# Altium footprint library Conv_buck_R0.PcbLib: 47 footprints (part 1 of 3)
Each footprint in its own frame and in the unit in brackets; x right, y up, seen from the top. Pads: shape width x height; smd on the part's side, far side on the other; paste and mask are expansions set on the pad; w line width, h text height; cw(c..) or ccw(c..) is an arc to the next point about the centre after c.
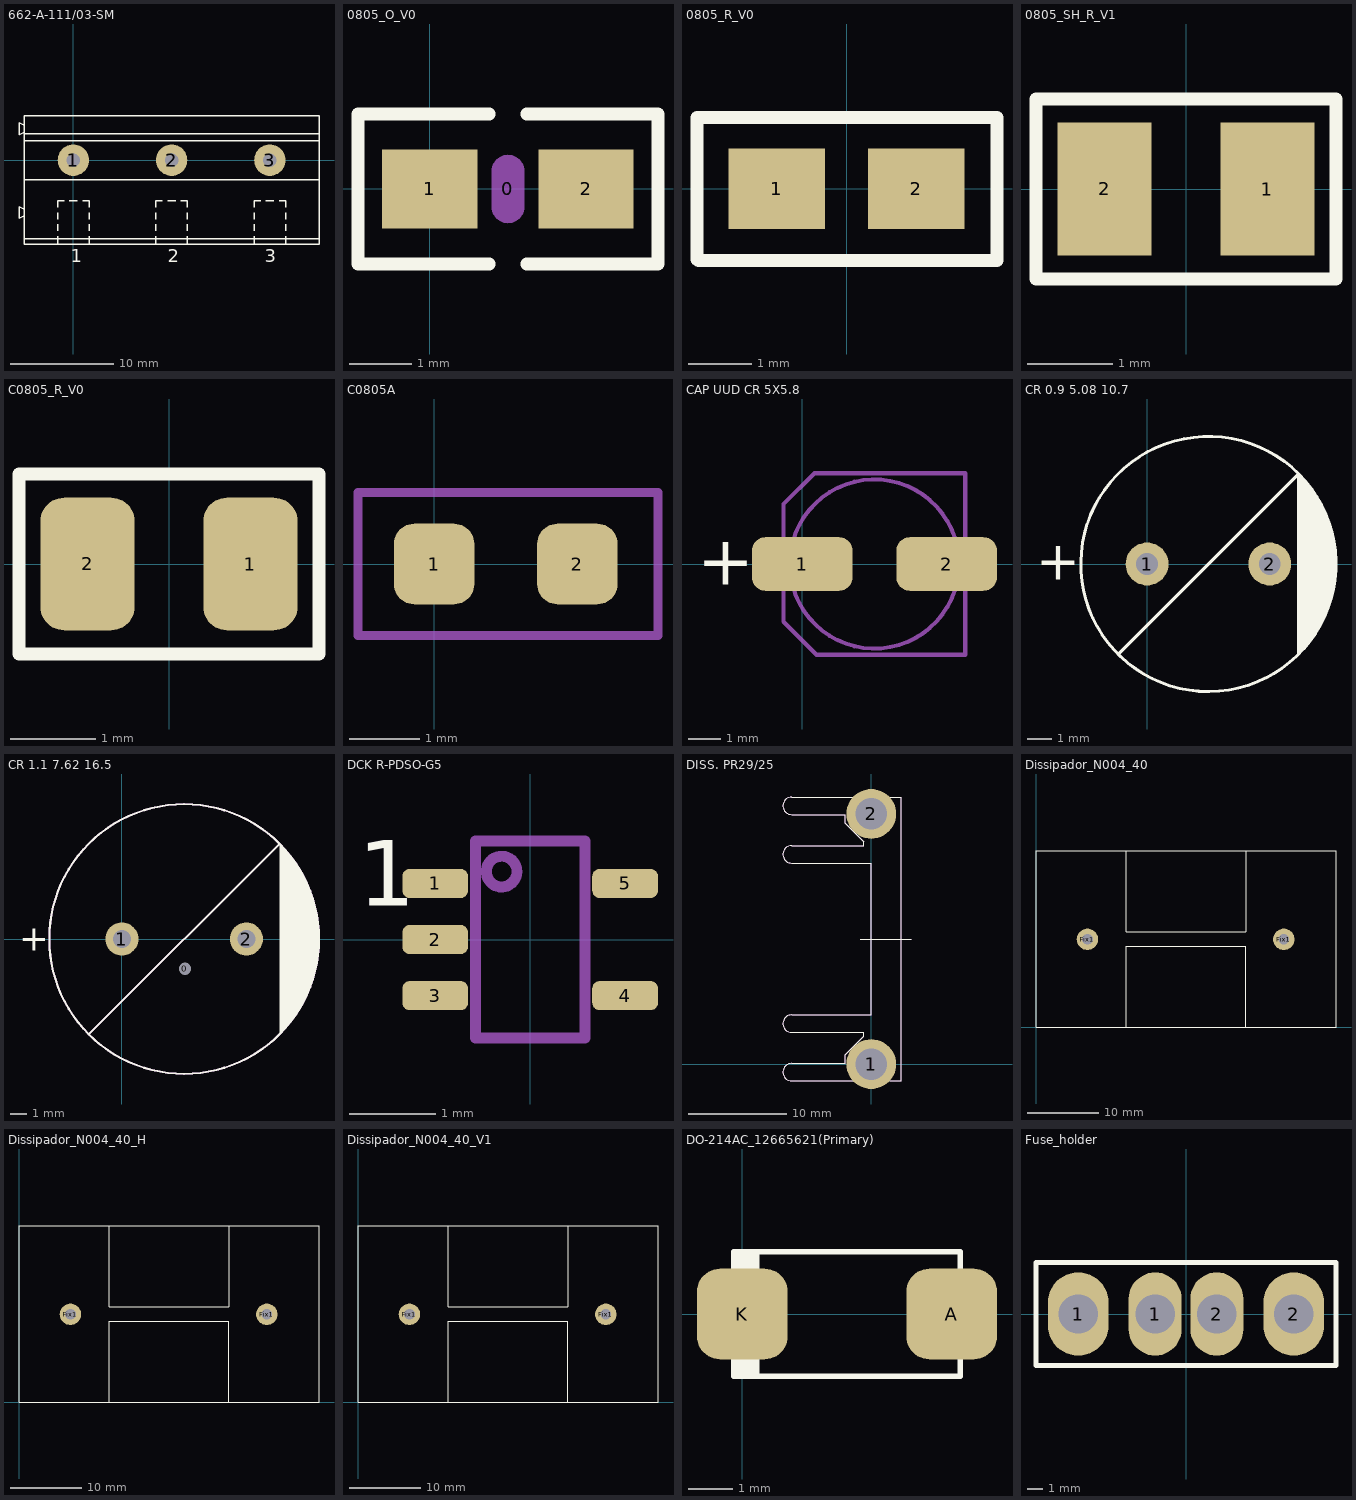
[diagram p0: the footprints below, top view; thin cyan lines are the x and y axes]

## 662-A-111/03-SM [mil]
pads (3):
  round 120 hole 51.18: 1(0,0) 2(375,0) 3(750,0)
Top Overlay:
  circle w5: c750,0 r50
  circle w5: c375,0 r50
  circle w5: c0,0 r50
  lines w5: -60,-320 -60,-290 ; -60,-270 -60,-245 ; -60,-225 -60,-200 ; -60,-180 -60,-155 -35,-155 ; -15,-155 15,-155 ; 35,-155 60,-155 60,-180 ; 60,-320 60,-290 ; 60,-270 60,-245 ; 60,-225 60,-200 ; 315,-320 315,-290 ; 315,-270 315,-245 ; 315,-225 315,-200 ; 315,-180 315,-155 340,-155 ; 360,-155 390,-155 ; 410,-155 435,-155 435,-180 ; 435,-320 435,-290 ; 435,-270 435,-245 ; 435,-225 435,-200 ; 690,-320 690,-290 ; 690,-270 690,-245 ; 690,-225 690,-200 ; 690,-180 690,-155 715,-155 ; 735,-155 765,-155 ; 785,-155 810,-155 810,-180 ; 810,-320 810,-290 ; 810,-270 810,-245 ; 810,-225 810,-200 ; -207.5,-222.5 -207.5,-177.5 ; -207.5,-222.5 -187.5,-212.5 -207.5,-222.5 ; -207.5,-222.5 -207.5,-177.5 ; -207.5,-177.5 -187.5,-187.5 -207.5,-177.5 ; -207.5,97.5 -207.5,142.5 ; -207.5,97.5 -187.5,107.5 -207.5,97.5 ; -207.5,97.5 -207.5,142.5 ; -207.5,142.5 -187.5,132.5 -207.5,142.5 ; -187.5,-320 -187.5,170 ; -187.5,-320 -187.5,170 ; -187.5,-320 937.5,-320 ; -187.5,-320 937.5,-320 ; -187.5,170 937.5,170 ; -187.5,170 937.5,170 ; 937.5,-320 937.5,170 ; 937.5,-320 937.5,170 ; -187.5,-300 937.5,-300 -187.5,-300 ; -187.5,-75 937.5,-75 -187.5,-75 ; -187.5,75 937.5,75 -187.5,75 ; -187.5,100 937.5,100 -187.5,100
  text "1" at -10,-390 h50
  text "3" at 730,-390 h50
  text "2" at 360,-390 h50
Mechanical 4:
  lines w5: -42.5,-10 -10,-10 -10,-42.5 10,-42.5 10,-10 42.5,-10 42.5,10 10,10 10,42.5 -10,42.5 -10,10 -42.5,10 -42.5,-10 ; 332.5,-10 365,-10 365,-42.5 385,-42.5 385,-10 417.5,-10 417.5,10 385,10 385,42.5 365,42.5 365,10 332.5,10 332.5,-10 ; 707.5,-10 740,-10 740,-42.5 760,-42.5 760,-10 792.5,-10 792.5,10 760,10 760,42.5 740,42.5 740,10 707.5,10 707.5,-10
3D body: height 846.85, standoff -153.15, extent -218.48,-311.06 939,181.06

## 0805_O_V0 [mm]
pads (3):
  oval 0.53x1.1 on Mech15: 0(1.25,0)
  rect 1.524x1.27 smd: 1(0,0) 2(2.5,0)
Top Overlay:
  lines w0.203: 0.95,-1.2 -1.15,-1.2 -1.15,1.2 0.95,1.2 ; 1.55,-1.2 3.65,-1.2 3.65,1.2 1.55,1.2

## 0805_R_V0 [mm]
height 5.08
pads (2):
  rect 1.524x1.27 smd: 1(-1.1,0) 2(1.1,0)
Top Overlay:
  lines w0.203: -2.36,1.129 2.362,1.129 ; -2.358,-1.111 -2.358,1.129 ; -2.338,-1.131 2.364,-1.131 ; 2.371,-1.13 2.371,1.129

## 0805_SH_R_V1 [mm] "IPC"
pads (2):
  rect 1.1x1.55 smd: 1(0.95,0) 2(-0.95,0)
Top Overlay:
  lines w0.15: -1.75,-1.05 -1.75,1.05 1.75,1.05 1.75,-1.05 -1.75,-1.05
3D body: height 0.78, standoff 0, extent -1.016,-0.635 0.984,0.615

## C0805_R_V0 [mm] "IPC"
height 5.08
pads (2):
  rrect50% 1.1x1.55 smd: 1(0.95,0) 2(-0.95,0)
Top Overlay:
  lines w0.15: -1.75,-1.05 1.75,-1.05 1.75,1.05 -1.75,1.05 -1.75,-1.05
3D body: height 0.78, standoff 0, extent -1,-0.625 1,0.625

## C0805A [mil]
pads (2):
  rrect50% 45x45 smd: 1(0,0) 2(80,0)
Mechanical 4:
  lines w5: -42.5,-40 -42.5,40 125,40 125,-40 -42.5,-40
3D body: height 30.79, standoff 0, extent 0.64,-24.6 79.38,24.61

## CAP UUD CR 5X5.8 [mm]
pads (2):
  rrect50% 3.1x1.651 smd: 1(0,0) 2(4.445,0)
Top Overlay:
  text "+" at -3.238,-0.635 h1.52
Mechanical 4:
  circle w0.127: c2.222,0 r2.604
  lines w0.127: -0.572,-0.381 -0.762,-0.381 -0.762,0.381 -0.572,0.381 ; 0.445,0 1.46,0 ; 0.953,-0.508 0.953,0.508 ; 5.016,-0.381 5.207,-0.381 5.207,0.381 5.016,0.381 ; -0.572,-1.778 -0.572,1.841 0.381,2.794 5.016,2.794 5.016,-2.794 0.445,-2.794 -0.572,-1.778
3D body: height 6, standoff 0, extent -0.464,-2.65 5.036,2.65

## CR 0.9 5.08 10.7 [mil]
pads (2):
  round 70 hole 35.43: 1(0,0) 2(200,0)
Top Overlay:
  region: 244.75,150 244.75,-150 272.25,-117.5 292.25,-80 304.75,-40 307.25,0 304.75,40 292.25,80 272.25,117.5
  lines w5: -47,-147 246.5,146.5 ; 100,-208 cw(c100,0) 102.03,-207.99
  text "+" at -181,-26 h62.5
3D body: height 560.12, standoff -180.83, extent -96.52,-196.81 296.86,196.81

## CR 1.1 7.62 16.5 [mil]
pads (3):
  round 27.6 hole 30 unplated: 0(152,-72)
  round 80 hole 43.31: 1(0,0) 2(300,0)
Top Overlay:
  region: 380,230 380,-230 420,-182.5 445,-135 467.5,-75 475,-22.5 475,12.5 467.5,75 445,135 420,182.5
  lines w5: -80,-230 380,230 ; 150,-325 ccw(c150,0) 150,325 ccw(c150,0) 150,-325
  text "+" at -248,-28 h62.5
Mechanical 1:
  lines w5: -80,-230 380,230 ; 150,-325 ccw(c150,0) 150,325 ccw(c150,0) 150,-325
3D body: height 1029.53, standoff -108.27, extent -174.13,-324.03 474.81,324.04

## DCK R-PDSO-G5 [mm] "SOT23, 5-Leads, Body 2x1.25mm, Pitch 0.65mm"
height 1.1
pads (5):
  rrect50% 0.762x0.338 smd: 1(-1.1,0.65) 2(-1.1,0) 3(-1.1,-0.65) 4(1.1,-0.65) 5(1.1,0.65)
Top Overlay:
  text "1" at -1.994,0.394 h0.76
Mechanical 4:
  circle w0.127: c-0.33,0.787 r0.178
  lines w0.127: -0.635,-1.143 -0.635,1.143 0.635,1.143 0.635,-1.143 -0.635,-1.143
3D body: height 1, standoff 0, extent -1.15,-1.05 1.15,1.05

## DISS. PR29/25 [mm]
pads (2):
  round 5.08 hole 3.2: 1(0,0) 2(0,25.527)
Top Overlay:
  circle w0.127: c0,0.064 r0.635
  circle w0.127: c0,25.463 r0.635
  lines w0.127: -1.143,12.763 4.064,12.763 ; -0.898,-0.835 cw(c0,0.064) 0.898,-0.835 ; -0.898,26.362 ccw(c0,25.463) 0.898,26.362 ; -0.889,-0.826 -0.889,-1.714 -8.128,-1.714 cw(c-8.128,-0.826) -8.128,0.064 -2.667,0.064 -2.667,0.953 -0.762,2.857 -0.762,3.238 -8.128,3.238 cw(c-8.128,4.127) -8.128,5.016 0,5.016 0,20.511 -8.128,20.511 cw(c-8.128,21.399) -8.128,22.288 -0.762,22.288 -0.762,22.669 -2.667,24.575 -2.667,25.463 -8.128,25.463 cw(c-8.128,26.352) -8.128,27.241 -0.889,27.241 -0.889,26.352 ; 0.889,-0.826 1.905,-1.714 3.048,-1.714 3.048,27.241 1.651,27.241 0.889,26.352
Mechanical 1:
  lines w0.127: -1.143,12.763 4.064,12.763 ; -0.889,-1.714 -8.128,-1.714 cw(c-8.128,-0.826) -8.128,0.064 -2.667,0.064 -2.667,0.953 -0.762,2.857 -0.762,3.238 -8.128,3.238 cw(c-8.128,4.127) -8.128,5.016 0,5.016 0,20.511 -8.128,20.511 cw(c-8.128,21.399) -8.128,22.288 -0.762,22.288 -0.762,22.669 -2.667,24.575 -2.667,25.463 -8.128,25.463 cw(c-8.128,26.352) -8.128,27.241 -0.889,27.241 ; 1.651,27.241 3.048,27.241 3.048,-1.714 1.905,-1.714
3D body: height 25.1, standoff 0.1, extent -9.077,-1.749 3.023,27.251

## Dissipador_N004_40 [mm] "AAVID_6298B"
pads (2):
  round 3 hole 1.5: Fix1(7.2,12.3) Fix1(34.7,12.3)
Top Overlay:
  lines w0.127: 12.65,0 12.65,11.35 29.35,11.35 29.35,0 ; 12.65,24.7 12.65,13.35 29.35,13.35 29.35,24.7 ; 0,0 42,0 42,24.7 0,24.7 0,0
3D body: height 25.4, standoff 0, extent -0.01,0.083 41.9,24.517

## Dissipador_N004_40_H [mm] "AAVID_6298B"
pads (2):
  round 3 hole 1.5: Fix1(7.2,12.3) Fix1(34.7,12.3)
Top Overlay:
  lines w0.127: 12.65,0 12.65,11.35 29.35,11.35 29.35,0 ; 12.65,24.7 12.65,13.35 29.35,13.35 29.35,24.7 ; 0,0 0,24.7 42,24.7 42,0 0,0
3D body: height 24.22, standoff -0.22, extent -0.01,-13.1 41.9,12.3

## Dissipador_N004_40_V1 [mm] "AAVID_6298B_ 5mm from board"
pads (2):
  round 3 hole 1.5: Fix1(7.2,12.3) Fix1(34.7,12.3)
Top Overlay:
  lines w0.127: 12.65,0 12.65,11.35 29.35,11.35 29.35,0 ; 12.65,24.7 12.65,13.35 29.35,13.35 29.35,24.7 ; 0,0 0,24.7 42,24.7 42,0 0,0
3D body: height 27.9, standoff 2.5, extent -0.01,0.083 41.9,24.518

## DO-214AC_12665621(Primary) [mil]
pads (2):
  rrect50% 80x80 smd: A(185,0) K(0,0)
Top Overlay:
  lines w5: -2.5,-55 -2.5,55 ; 2.5,-55 2.5,55 ; 7.5,-55 7.5,55 ; 12.5,-55 12.5,55 ; -7.5,-55 192.5,-55 192.5,55 -7.5,55 -7.5,-55
Mechanical 1:
  text "K" at -50,-100 h37.5

## Fuse_holder [mm] "Automotive 3522-2 Keystone"
pads (4):
  oval 4x5.5 hole 2.6: 1(-7.112,0) 2(7.112,0)
  oval 3.5x5.5 hole 2.6: 1(-2.032,0) 2(2.032,0)
Top Overlay:
  lines w0.3: -9.9,-3.4 -9.9,3.4 9.9,3.4 9.9,-3.4 -9.9,-3.4
3D body: height 20, standoff 0.62, extent -9.725,-2.54 9.325,2.54